# Altium schematic symbol library gps.SchLib: 20 symbols
Pins are listed as number, name and electrical type; pins without a type are passive.

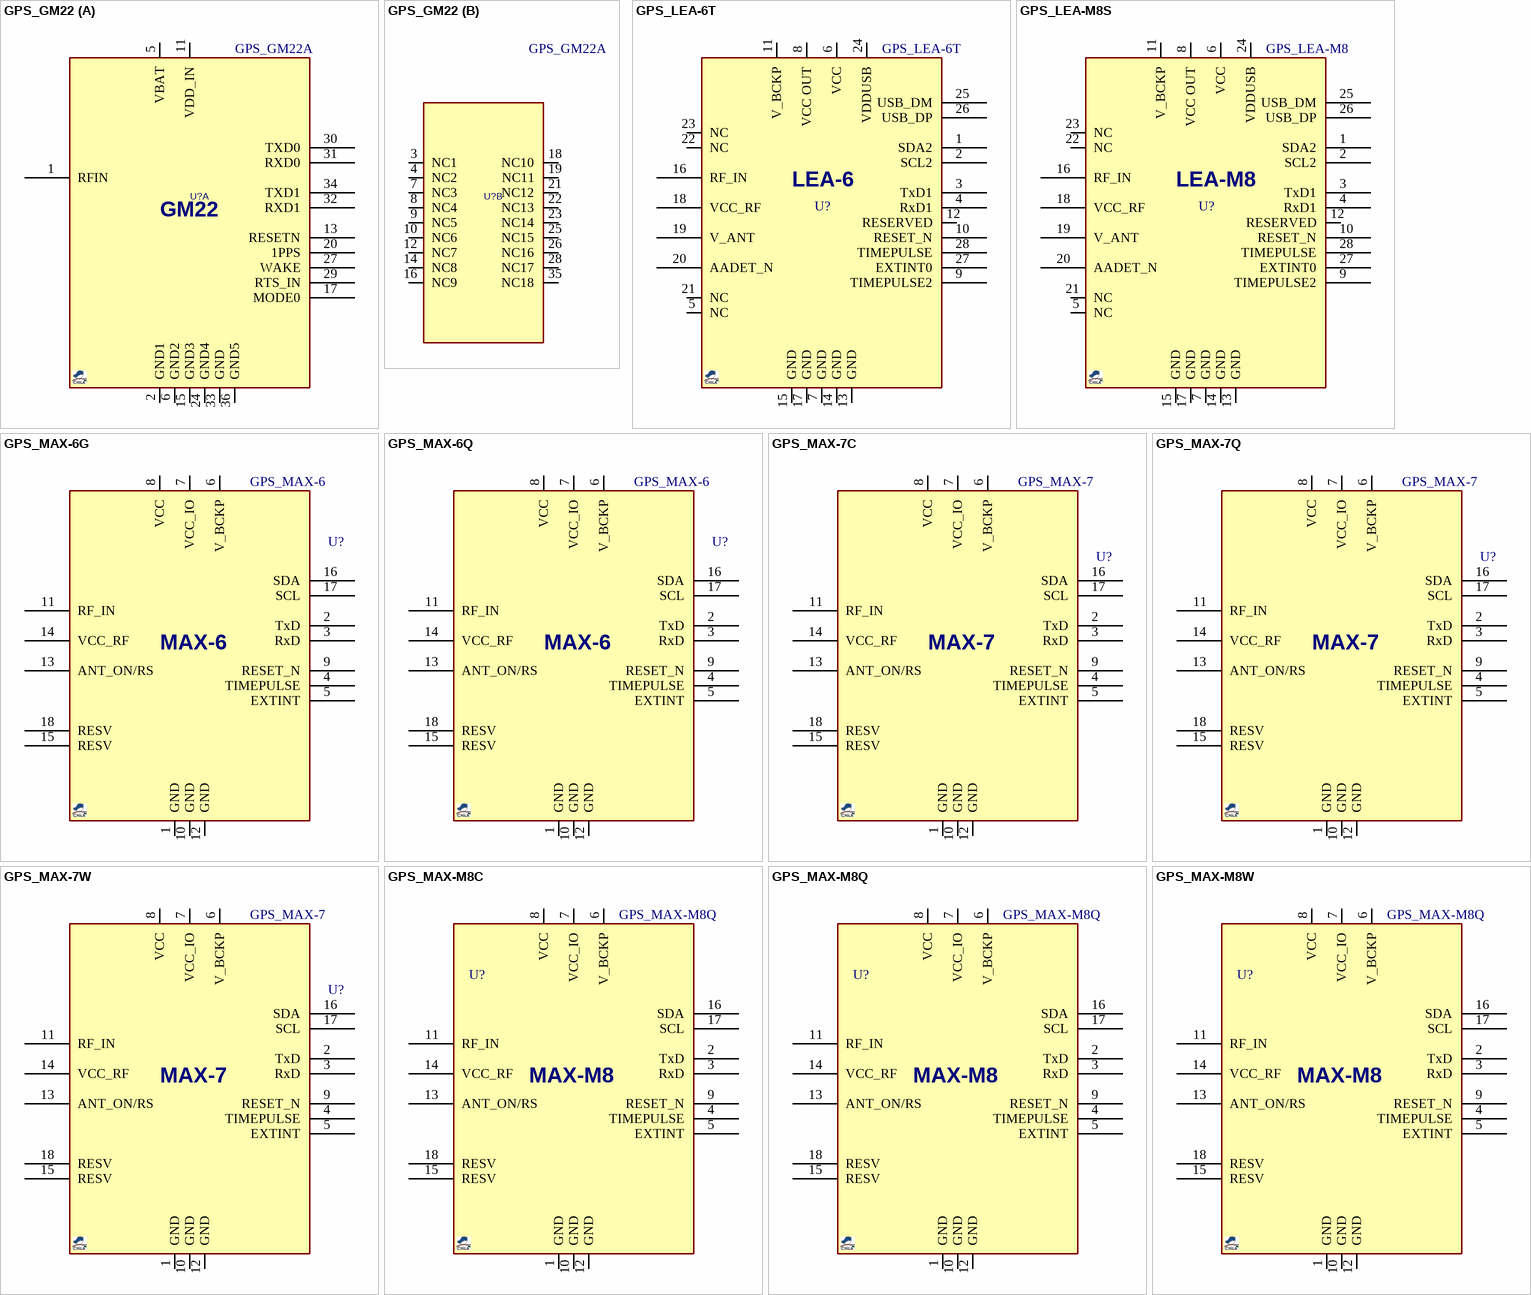
[diagram p0: symbols GPS_GM22 to GPS_MAX-M8W]

## GPS_GM22
designator U?, comment GPS_GM22A
GPS MODULE, 2.7-4.5V SMT; MANF: ATHEROS COMMUNICATIONS, INC; MANF_P#: GM22A; PARAM2: 2.7-4.5V; VALUE: GPS_GM22A
footprint GPS_GM22 (Footprint not found)
part A pins: 1 RFIN, 2 GND1, 5 VBAT, 6 GND2, 11 VDD_IN, 13 RESETN, 15 GND3, 17 MODE0, 20 1PPS, 24 GND4, 27 WAKE, 29 RTS_IN, 30 TXD0, 31 RXD0, 32 RXD1, 33 GND, 34 TXD1, 36 GND5
part B pins: 3 NC1, 4 NC2, 7 NC3, 8 NC4, 9 NC5, 10 NC6, 12 NC7, 14 NC8, 16 NC9, 18 NC10, 19 NC11, 21 NC12, 22 NC13, 23 NC14, 25 NC15, 26 NC16, 28 NC17, 35 NC18
part A text: GM22

## GPS_LEA-6T
designator U?
GPS Module, LEA-6, u-blox 6; MANF_P#: LEA-6T; PARAM2: 2.7~3.6V; MANF: U-BLOX; VALUE: GPS_LEA-6T
footprint GPS_LEA (GPS LEA-6)
pins: 1 SDA2, 2 SCL2, 3 TxD1, 4 RxD1, 5 NC, 6 VCC, 7 GND, 8 VCC OUT, 9 TIMEPULSE2, 10 RESET_N, 11 V_BCKP, 12 RESERVED, 13 GND, 14 GND, 15 GND, 16 RF_IN, 17 GND, 18 VCC_RF, 19 V_ANT, 20 AADET_N, 21 NC, 22 NC, 23 NC, 24 VDDUSB, 25 USB_DM, 26 USB_DP, 27 EXTINT0, 28 TIMEPULSE
text: LEA-6

## GPS_LEA-M8S
designator U?, comment GPS_LEA-M8
GPS Module, Standard GNSS, GPS/QZSS, GLONASS, Galileo, Beidou; MANF: U-BLOX; MANF_P#: LEA-M8S; PARAM2: 2.7~3.6V; PARAM: Standard GNSS, GPS/QZSS, GLONASS, Galileo, Beidou; VALUE: GPS_LEA-M8
footprint GPS_LEA (GPS LEA-6)
pins: 1 SDA2, 2 SCL2, 3 TxD1, 4 RxD1, 5 NC, 6 VCC, 7 GND, 8 VCC OUT, 9 TIMEPULSE2, 10 RESET_N, 11 V_BCKP, 12 RESERVED, 13 GND, 14 GND, 15 GND, 16 RF_IN, 17 GND, 18 VCC_RF, 19 V_ANT, 20 AADET_N, 21 NC, 22 NC, 23 NC, 24 VDDUSB, 25 USB_DM, 26 USB_DP, 27 EXTINT0, 28 TIMEPULSE
text: LEA-M8

## GPS_MAX-6G
designator U?, comment GPS_MAX-6
GPS Module, MAX-6; MANF: U-BLOX; MANF_P#: MAX-6G; PARAM2: 1.75~2V; VALUE: GPS_MAX-6
footprint GPS_MAX (MAX-M8, 18-Leads, Body 9.70x10.10mm, Pitch 1.10mm)
pins: 1 GND, 2 TxD, 3 RxD, 4 TIMEPULSE, 5 EXTINT, 6 V_BCKP, 7 VCC_IO, 8 VCC, 9 RESET_N, 10 GND, 11 RF_IN, 12 GND, 13 ANT_ON/RS, 14 VCC_RF, 15 RESV, 16 SDA, 17 SCL, 18 RESV
text: MAX-6

## GPS_MAX-6Q
designator U?, comment GPS_MAX-6
GPS Module, MAX-6; MANF: U-BLOX; MANF_P#: MAX-6Q; PARAM2: 2.7~3.6V; VALUE: GPS_MAX-6
footprint GPS_MAX (MAX-M8, 18-Leads, Body 9.70x10.10mm, Pitch 1.10mm)
pins: 1 GND, 2 TxD, 3 RxD, 4 TIMEPULSE, 5 EXTINT, 6 V_BCKP, 7 VCC_IO, 8 VCC, 9 RESET_N, 10 GND, 11 RF_IN, 12 GND, 13 ANT_ON/RS, 14 VCC_RF, 15 RESV, 16 SDA, 17 SCL, 18 RESV
text: MAX-6

## GPS_MAX-7C
designator U?, comment GPS_MAX-7
GPS Module, UART/I2C, GPS/QZSS, GLONASS; MANF: U-BLOX; MANF_P#: MAX-7C; PARAM2: 1.65~3.6V, Lowest power; VALUE: GPS_MAX-7
footprint GPS_MAX (MAX-M8, 18-Leads, Body 9.70x10.10mm, Pitch 1.10mm)
pins: 1 GND, 2 TxD, 3 RxD, 4 TIMEPULSE, 5 EXTINT, 6 V_BCKP, 7 VCC_IO, 8 VCC, 9 RESET_N, 10 GND, 11 RF_IN, 12 GND, 13 ANT_ON/RS, 14 VCC_RF, 15 RESV, 16 SDA, 17 SCL, 18 RESV
text: MAX-7

## GPS_MAX-7Q
designator U?, comment GPS_MAX-7
GPS Module, UART/I2C, GPS/QZSS, GLONASS; MANF: U-BLOX; MANF_P#: MAX-7Q; PARAM2: 2.7~3.6V, Lowest power; VALUE: GPS_MAX-7
footprint GPS_MAX (MAX-M8, 18-Leads, Body 9.70x10.10mm, Pitch 1.10mm)
pins: 1 GND, 2 TxD, 3 RxD, 4 TIMEPULSE, 5 EXTINT, 6 V_BCKP, 7 VCC_IO, 8 VCC, 9 RESET_N, 10 GND, 11 RF_IN, 12 GND, 13 ANT_ON/RS, 14 VCC_RF, 15 RESV, 16 SDA, 17 SCL, 18 RESV
text: MAX-7

## GPS_MAX-7W
designator U?, comment GPS_MAX-7
GPS Module, UART/I2C, GPS/QZSS, GLONASS; MANF: U-BLOX; MANF_P#: MAX-7W; PARAM2: 2.7~3.6V; VALUE: GPS_MAX-7
footprint GPS_MAX (MAX-M8, 18-Leads, Body 9.70x10.10mm, Pitch 1.10mm)
pins: 1 GND, 2 TxD, 3 RxD, 4 TIMEPULSE, 5 EXTINT, 6 V_BCKP, 7 VCC_IO, 8 VCC, 9 RESET_N, 10 GND, 11 RF_IN, 12 GND, 13 ANT_ON/RS, 14 VCC_RF, 15 RESV, 16 SDA, 17 SCL, 18 RESV
text: MAX-7

## GPS_MAX-M8C
designator U?, comment GPS_MAX-M8Q
GPS Module, UART/I2C, Standard GNSS, GPS/QZSS, GLONASS, Galileo, Beidou; MANF: U-BLOX; MANF_P#: MAX-M8C; PARAM2: 1.65~3.6V; PARAM: Standard GNSS, GPS/QZSS, GLONASS, Galileo, Beidou; VALUE: GPS_MAX-M8Q
footprint GPS_MAX (MAX-M8, 18-Leads, Body 9.70x10.10mm, Pitch 1.10mm)
pins: 1 GND, 2 TxD, 3 RxD, 4 TIMEPULSE, 5 EXTINT, 6 V_BCKP, 7 VCC_IO, 8 VCC, 9 RESET_N, 10 GND, 11 RF_IN, 12 GND, 13 ANT_ON/RS, 14 VCC_RF, 15 RESV, 16 SDA, 17 SCL, 18 RESV
text: MAX-M8

## GPS_MAX-M8Q
designator U?
GPS Module, UART/I2C, Standard GNSS, GPS/QZSS, GLONASS, Galileo, Beidou; MANF: U-BLOX; MANF_P#: MAX-M8Q-0-01; PARAM2: 2.7~3.6V; PARAM: Standard GNSS, GPS/QZSS, GLONASS, Galileo, Beidou; VALUE: GPS_MAX-M8Q
footprint GPS_MAX (MAX-M8, 18-Leads, Body 9.70x10.10mm, Pitch 1.10mm)
pins: 1 GND, 2 TxD, 3 RxD, 4 TIMEPULSE, 5 EXTINT, 6 V_BCKP, 7 VCC_IO, 8 VCC, 9 RESET_N, 10 GND, 11 RF_IN, 12 GND, 13 ANT_ON/RS, 14 VCC_RF, 15 RESV, 16 SDA, 17 SCL, 18 RESV
text: MAX-M8

## GPS_MAX-M8W
designator U?, comment GPS_MAX-M8Q
GPS Module, UART/I2C, Standard GNSS, GPS/QZSS, GLONASS, Galileo, Beidou; MANF: U-BLOX; MANF_P#: MAX-M8W; PARAM2: 2.7~3.6V; PARAM: Standard GNSS, GPS/QZSS, GLONASS, Galileo, Beidou; VALUE: GPS_MAX-M8Q
footprint GPS_MAX (MAX-M8, 18-Leads, Body 9.70x10.10mm, Pitch 1.10mm)
pins: 1 GND, 2 TxD, 3 RxD, 4 TIMEPULSE, 5 EXTINT, 6 V_BCKP, 7 VCC_IO, 8 VCC, 9 RESET_N, 10 GND, 11 RF_IN, 12 GND, 13 ANT_ON/RS, 14 VCC_RF, 15 RESV, 16 SDA, 17 SCL, 18 RESV
text: MAX-M8

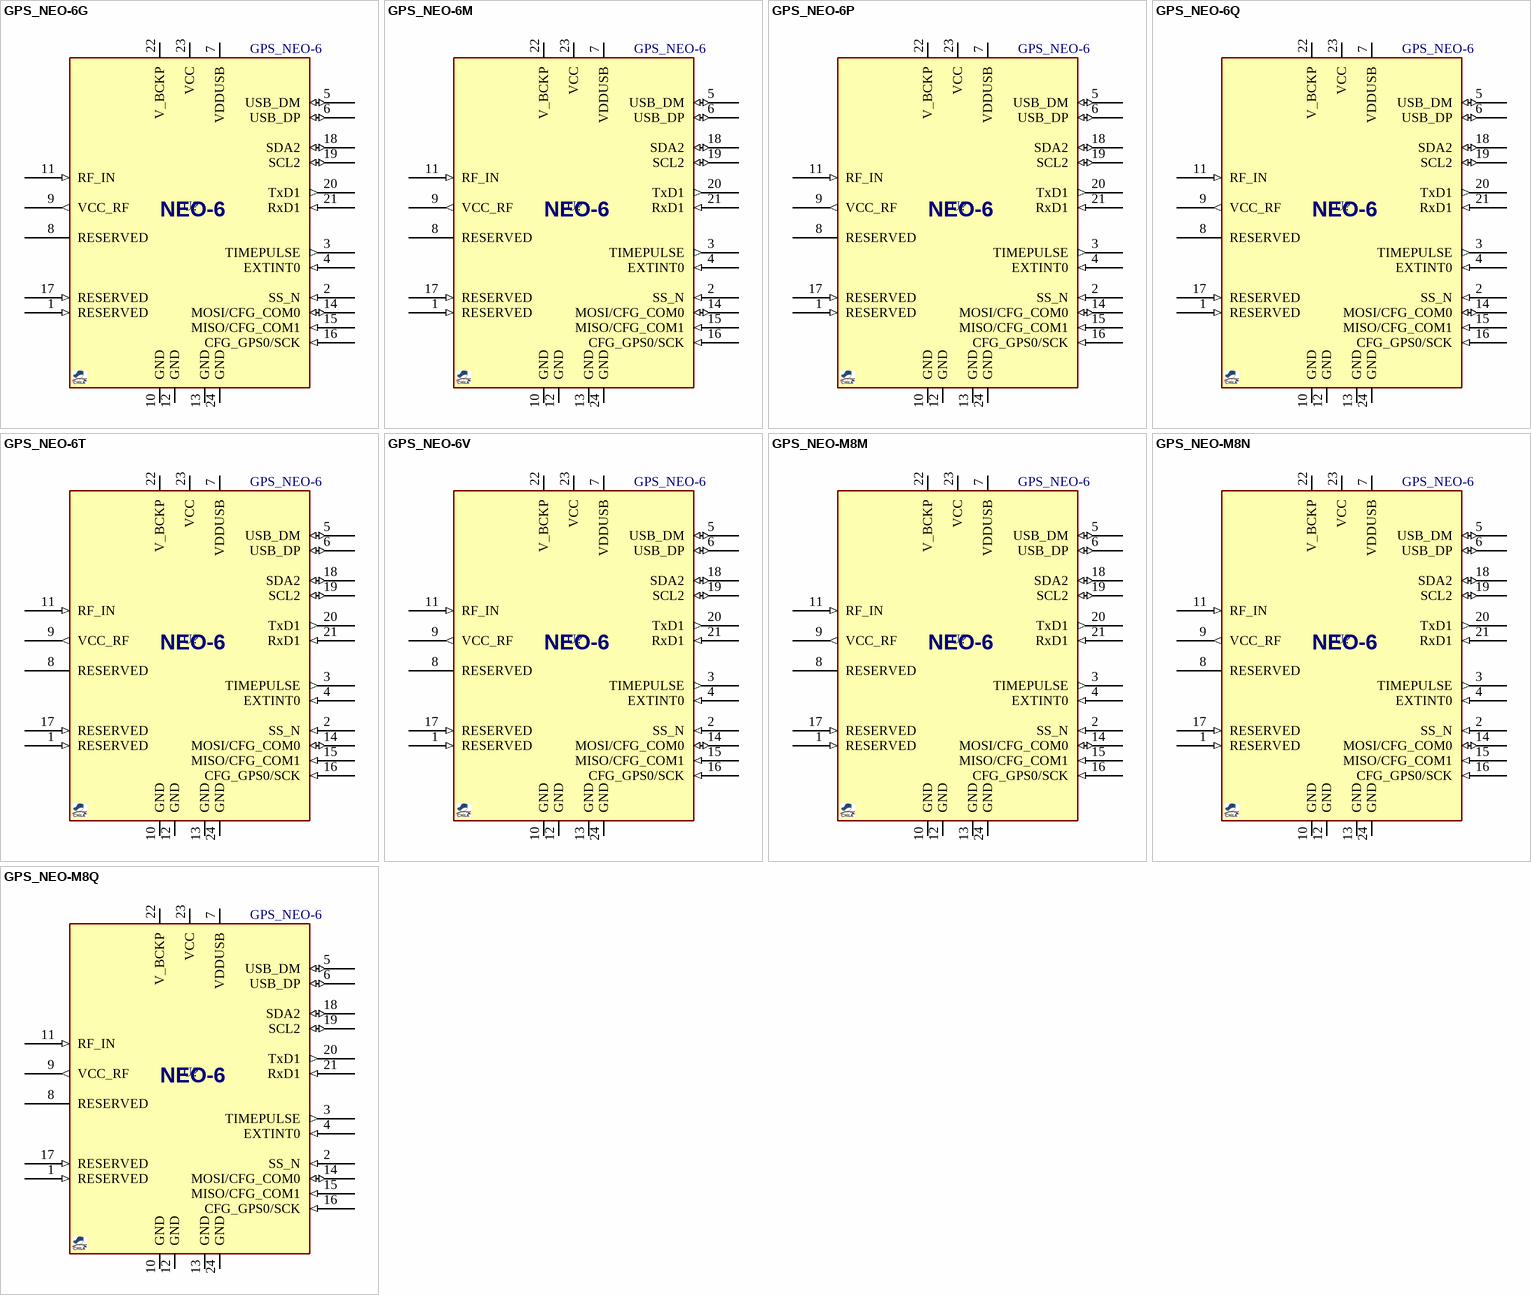
[diagram p1: symbols GPS_NEO-6G to GPS_NEO-M8Q]

## GPS_NEO-6G
designator U?, comment GPS_NEO-6
GPS Module, USB/UART/I2C/SPI; MANF: U-BLOX; MANF_P#: NEO-6G; PARAM2: 1.75~2V; VALUE: GPS_NEO-6
footprint GPS_NEO (GPS NEO-6, UBLOX_NEO6M GPS MODULE)
pins: 1 RESERVED (in), 2 SS_N (in), 3 TIMEPULSE (out), 4 EXTINT0 (in), 5 USB_DM (io), 6 USB_DP (io), 7 VDDUSB, 8 RESERVED, 9 VCC_RF (out), 10 GND, 11 RF_IN (in), 12 GND, 13 GND, 14 MOSI/CFG_COM0 (io), 15 MISO/CFG_COM1 (in), 16 CFG_GPS0/SCK (in), 17 RESERVED (in), 18 SDA2 (io), 19 SCL2 (io), 20 TxD1 (out), 21 RxD1 (in), 22 V_BCKP, 23 VCC, 24 GND
text: NEO-6

## GPS_NEO-6M
designator U?, comment GPS_NEO-6
GPS Module, USB/UART/I2C/SPI; MANF: U-BLOX; MANF_P#: NEO-6M; PARAM2: 2.7~3.6V; VALUE: GPS_NEO-6
footprint GPS_NEO (GPS NEO-6, UBLOX_NEO6M GPS MODULE)
pins: 1 RESERVED (in), 2 SS_N (in), 3 TIMEPULSE (out), 4 EXTINT0 (in), 5 USB_DM (io), 6 USB_DP (io), 7 VDDUSB, 8 RESERVED, 9 VCC_RF (out), 10 GND, 11 RF_IN (in), 12 GND, 13 GND, 14 MOSI/CFG_COM0 (io), 15 MISO/CFG_COM1 (in), 16 CFG_GPS0/SCK (in), 17 RESERVED (in), 18 SDA2 (io), 19 SCL2 (io), 20 TxD1 (out), 21 RxD1 (in), 22 V_BCKP, 23 VCC, 24 GND
text: NEO-6

## GPS_NEO-6P
designator U?, comment GPS_NEO-6
GPS Module, USB/UART/I2C/SPI; MANF: U-BLOX; MANF_P#: NEO-6P; PARAM2: 2.7~3.6V; VALUE: GPS_NEO-6
footprint GPS_NEO (GPS NEO-6, UBLOX_NEO6M GPS MODULE)
pins: 1 RESERVED (in), 2 SS_N (in), 3 TIMEPULSE (out), 4 EXTINT0 (in), 5 USB_DM (io), 6 USB_DP (io), 7 VDDUSB, 8 RESERVED, 9 VCC_RF (out), 10 GND, 11 RF_IN (in), 12 GND, 13 GND, 14 MOSI/CFG_COM0 (io), 15 MISO/CFG_COM1 (in), 16 CFG_GPS0/SCK (in), 17 RESERVED (in), 18 SDA2 (io), 19 SCL2 (io), 20 TxD1 (out), 21 RxD1 (in), 22 V_BCKP, 23 VCC, 24 GND
text: NEO-6

## GPS_NEO-6Q
designator U?, comment GPS_NEO-6
GPS Module, USB/UART/I2C/SPI; MANF: U-BLOX; MANF_P#: NEO-6Q; PARAM2: 2.7~3.6V; VALUE: GPS_NEO-6
footprint GPS_NEO (GPS NEO-6, UBLOX_NEO6M GPS MODULE)
pins: 1 RESERVED (in), 2 SS_N (in), 3 TIMEPULSE (out), 4 EXTINT0 (in), 5 USB_DM (io), 6 USB_DP (io), 7 VDDUSB, 8 RESERVED, 9 VCC_RF (out), 10 GND, 11 RF_IN (in), 12 GND, 13 GND, 14 MOSI/CFG_COM0 (io), 15 MISO/CFG_COM1 (in), 16 CFG_GPS0/SCK (in), 17 RESERVED (in), 18 SDA2 (io), 19 SCL2 (io), 20 TxD1 (out), 21 RxD1 (in), 22 V_BCKP, 23 VCC, 24 GND
text: NEO-6

## GPS_NEO-6T
designator U?, comment GPS_NEO-6
GPS Module, USB/UART/I2C/SPI; MANF: U-BLOX; MANF_P#: NEO-6T; PARAM2: 2.7~3.6V; VALUE: GPS_NEO-6
footprint GPS_NEO (GPS NEO-6, UBLOX_NEO6M GPS MODULE)
pins: 1 RESERVED (in), 2 SS_N (in), 3 TIMEPULSE (out), 4 EXTINT0 (in), 5 USB_DM (io), 6 USB_DP (io), 7 VDDUSB, 8 RESERVED, 9 VCC_RF (out), 10 GND, 11 RF_IN (in), 12 GND, 13 GND, 14 MOSI/CFG_COM0 (io), 15 MISO/CFG_COM1 (in), 16 CFG_GPS0/SCK (in), 17 RESERVED (in), 18 SDA2 (io), 19 SCL2 (io), 20 TxD1 (out), 21 RxD1 (in), 22 V_BCKP, 23 VCC, 24 GND
text: NEO-6

## GPS_NEO-6V
designator U?, comment GPS_NEO-6
GPS Module, USB/UART/I2C/SPI; MANF: U-BLOX; MANF_P#: NEO-6V; PARAM2: 2.7~3.6V; VALUE: GPS_NEO-6
footprint GPS_NEO (GPS NEO-6, UBLOX_NEO6M GPS MODULE)
pins: 1 RESERVED (in), 2 SS_N (in), 3 TIMEPULSE (out), 4 EXTINT0 (in), 5 USB_DM (io), 6 USB_DP (io), 7 VDDUSB, 8 RESERVED, 9 VCC_RF (out), 10 GND, 11 RF_IN (in), 12 GND, 13 GND, 14 MOSI/CFG_COM0 (io), 15 MISO/CFG_COM1 (in), 16 CFG_GPS0/SCK (in), 17 RESERVED (in), 18 SDA2 (io), 19 SCL2 (io), 20 TxD1 (out), 21 RxD1 (in), 22 V_BCKP, 23 VCC, 24 GND
text: NEO-6

## GPS_NEO-M8M
designator U?, comment GPS_NEO-6
GPS Module, GPS/QZSS, GLONASS, Beidou; MANF: U-BLOX; MANF_P#: NEO-M8M; PARAM2: 1.65~3.6V; PARAM: USB/UART/I2C/SPI; VALUE: GPS_NEO-6
footprint GPS_NEO (GPS NEO-6, UBLOX_NEO6M GPS MODULE)
pins: 1 RESERVED (in), 2 SS_N (in), 3 TIMEPULSE (out), 4 EXTINT0 (in), 5 USB_DM (io), 6 USB_DP (io), 7 VDDUSB, 8 RESERVED, 9 VCC_RF (out), 10 GND, 11 RF_IN (in), 12 GND, 13 GND, 14 MOSI/CFG_COM0 (io), 15 MISO/CFG_COM1 (in), 16 CFG_GPS0/SCK (in), 17 RESERVED (in), 18 SDA2 (io), 19 SCL2 (io), 20 TxD1 (out), 21 RxD1 (in), 22 V_BCKP, 23 VCC, 24 GND
text: NEO-6

## GPS_NEO-M8N
designator U?, comment GPS_NEO-6
GPS Module, GPS/QZSS, GLONASS, Beidou; MANF: U-BLOX; MANF_P#: NEO-M8N; PARAM2: 2.7~3.6V; PARAM: USB/UART/I2C/SPI; VALUE: GPS_NEO-6
footprint GPS_NEO (GPS NEO-6, UBLOX_NEO6M GPS MODULE)
pins: 1 RESERVED (in), 2 SS_N (in), 3 TIMEPULSE (out), 4 EXTINT0 (in), 5 USB_DM (io), 6 USB_DP (io), 7 VDDUSB, 8 RESERVED, 9 VCC_RF (out), 10 GND, 11 RF_IN (in), 12 GND, 13 GND, 14 MOSI/CFG_COM0 (io), 15 MISO/CFG_COM1 (in), 16 CFG_GPS0/SCK (in), 17 RESERVED (in), 18 SDA2 (io), 19 SCL2 (io), 20 TxD1 (out), 21 RxD1 (in), 22 V_BCKP, 23 VCC, 24 GND
text: NEO-6

## GPS_NEO-M8Q
designator U?, comment GPS_NEO-6
GPS Module, GPS/QZSS, GLONASS, Beidou; MANF: U-BLOX; MANF_P#: NEO-M8Q; PARAM2: 2.7~3.6V; PARAM: USB/UART/I2C/SPI; VALUE: GPS_NEO-6
footprint GPS_NEO (GPS NEO-6, UBLOX_NEO6M GPS MODULE)
pins: 1 RESERVED (in), 2 SS_N (in), 3 TIMEPULSE (out), 4 EXTINT0 (in), 5 USB_DM (io), 6 USB_DP (io), 7 VDDUSB, 8 RESERVED, 9 VCC_RF (out), 10 GND, 11 RF_IN (in), 12 GND, 13 GND, 14 MOSI/CFG_COM0 (io), 15 MISO/CFG_COM1 (in), 16 CFG_GPS0/SCK (in), 17 RESERVED (in), 18 SDA2 (io), 19 SCL2 (io), 20 TxD1 (out), 21 RxD1 (in), 22 V_BCKP, 23 VCC, 24 GND
text: NEO-6